# Altium schematic symbol library thyristor1K2A3G.SchLib: 1 symbol
Pins are listed as number, name and electrical type; pins without a type are passive.

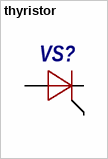
[diagram p0: symbol thyristor]

## thyristor
designator VS?
pins: 1, 2, 3